# Altium footprint library SML-P11VTT86R.PcbLib: 1 footprints
Each footprint in its own frame and in the unit in brackets; x right, y up, seen from the top. Pads: shape width x height; smd on the part's side, far side on the other; paste and mask are expansions set on the pad; w line width, h text height; cw(c..) or ccw(c..) is an arc to the next point about the centre after c.
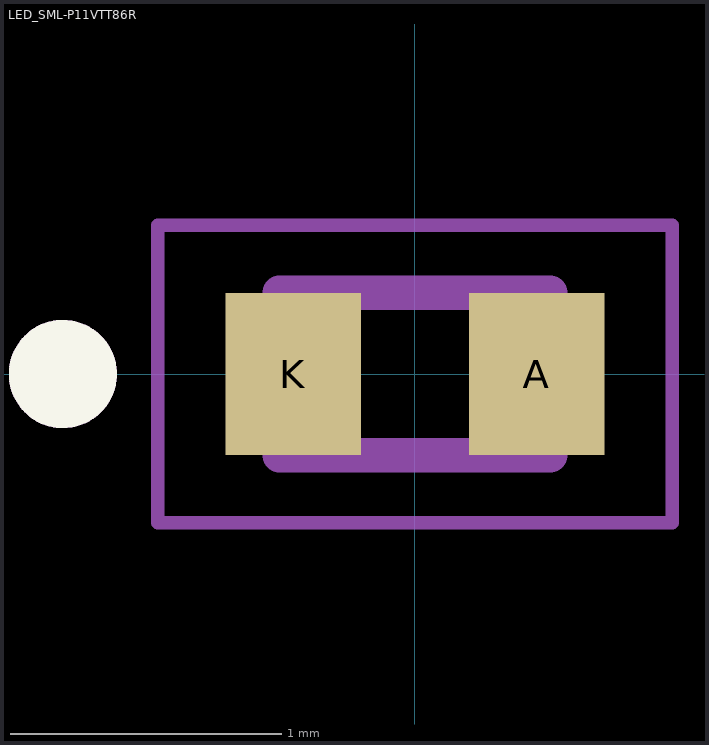
[diagram p0: the footprint, top view; thin cyan lines are the x and y axes]

## LED_SML-P11VTT86R [mm]
height 0.25
pads (2):
  rect 0.5x0.6 smd: A(0.45,0) K(-0.45,0)
Top Overlay:
  circle w0.2: c-1.3,0 r0.1
Mechanical 13:
  circle w0.2: c-1.3,0 r0.1
  lines w0.127: -0.5,-0.3 0.5,-0.3 0.5,0.3 -0.5,0.3 -0.5,-0.3
Mechanical 15:
  lines w0.05: -0.95,-0.55 -0.95,0.55 0.95,0.55 0.95,-0.55 -0.95,-0.55
3D body "step_temp.STEP": height 0.21, standoff -0.04, extent -0.5,-0.3 0.5,0.3